# EAGLE library part WD-G0906WY (library dragberry)
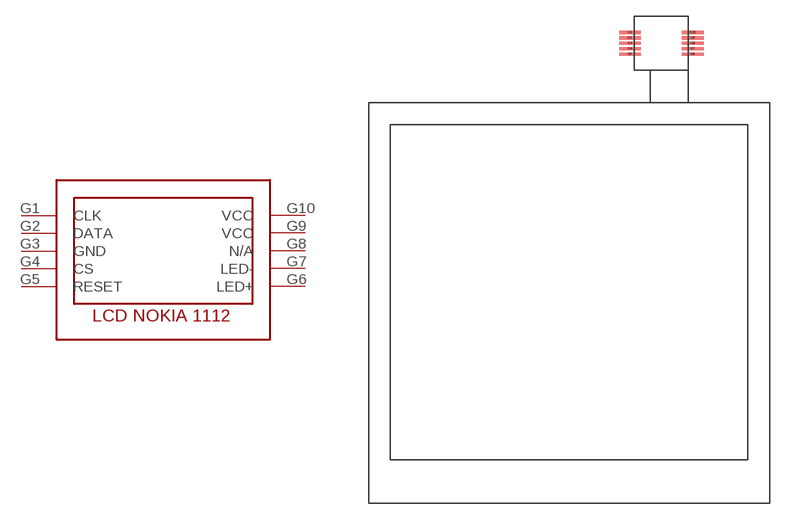
[diagram p1: symbol with the pads of WD-G0906WY; footprint WD-G0906WY]

Designator prefix HG

## WD-G0906WY  [WD-G0906WY]
G1  CLK
G2  DATA
G3  GND
G4  CS
G5  RESET
G6  LED+
G7  LED-
G8  N/A
G9  VCC
G10  VCC

## Footprint WD-G0906WY (pad centres in mm)
smd 2 x 0.305: G1 5.6,25; G2 5.6,24.5; G3 5.6,24; G4 5.6,23.5; G5 5.6,23; G6 11.4,23; G7 11.4,23.5; G8 11.4,24; G9 11.4,24.5; G10 11.4,25